# EAGLE library part STM32G071CXU (library stm32)
Mainstream Arm Cortex-M0+ MCU with 128 Kbytes of Flash memory, 36 Kbytes RAM, 64 MHz CPU, 4x USART, timers, ADC, DAC, comm. I/F, 1.7-3.6V
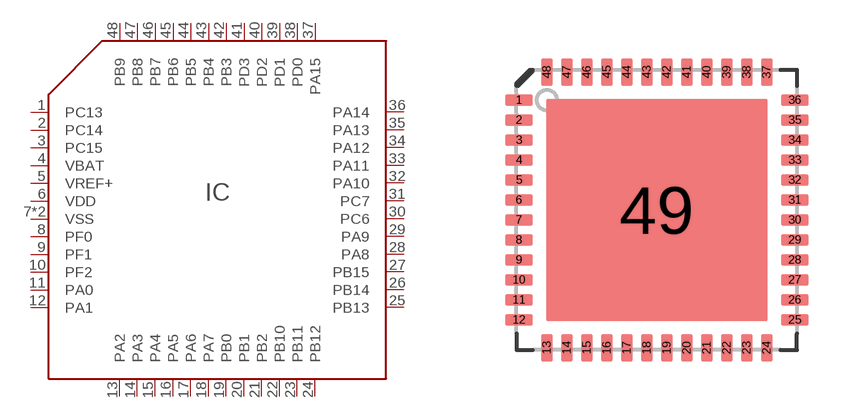
[diagram p29: symbol with the pads of UFQFPN48; footprint UFQFPN48]

Designator prefix IC

## STM32G071CXU (MANF: STMicroelectronics; MANF#: STM32G071CBU6)  [UFQFPN48]
1  PC13  hiz
2  PC14  hiz
3  PC15  hiz
4  VBAT  pas
5  VREF+  pas
6  VDD  pas
7  VSS  pas
8  PF0  hiz
9  PF1  hiz
10  PF2  hiz
11  PA0  hiz
12  PA1  hiz
13  PA2  hiz
14  PA3  hiz
15  PA4  hiz
16  PA5  hiz
17  PA6  hiz
18  PA7  hiz
19  PB0  hiz
20  PB1  hiz
21  PB2  hiz
22  PB10  hiz
23  PB11  hiz
24  PB12  hiz
25  PB13  hiz
26  PB14  hiz
27  PB15  hiz
28  PA8  hiz
29  PA9  hiz
30  PC6  hiz
31  PC7  hiz
32  PA10  hiz
33  PA11  hiz
34  PA12  hiz
35  PA13  hiz
36  PA14  hiz
37  PA15  hiz
38  PD0  hiz
39  PD1  hiz
40  PD2  hiz
41  PD3  hiz
42  PB3  hiz
43  PB4  hiz
44  PB5  hiz
45  PB6  hiz
46  PB7  hiz
47  PB8  hiz
48  PB9  hiz
49  VSS  pas

## Footprint UFQFPN48 (pad centres in mm)
smd 0.7 x 0.3: 1 -3.45,2.75; 2 -3.45,2.25; 3 -3.45,1.75; 4 -3.45,1.25; 5 -3.45,0.75; 6 -3.45,0.25; 7 -3.45,-0.25; 8 -3.45,-0.75; 9 -3.45,-1.25; 10 -3.45,-1.75; 11 -3.45,-2.25; 12 -3.45,-2.75; 25 3.45,-2.75; 26 3.45,-2.25; 27 3.45,-1.75; 28 3.45,-1.25; 29 3.45,-0.75; 30 3.45,-0.25; 31 3.45,0.25; 32 3.45,0.75; 33 3.45,1.25; 34 3.45,1.75; 35 3.45,2.25; 36 3.45,2.75
smd 0.3 x 0.7: 13 -2.75,-3.45; 14 -2.25,-3.45; 15 -1.75,-3.45; 16 -1.25,-3.45; 17 -0.75,-3.45; 18 -0.25,-3.45; 19 0.25,-3.45; 20 0.75,-3.45; 21 1.25,-3.45; 22 1.75,-3.45; 23 2.25,-3.45; 24 2.75,-3.45; 37 2.75,3.45; 38 2.25,3.45; 39 1.75,3.45; 40 1.25,3.45; 41 0.75,3.45; 42 0.25,3.45; 43 -0.25,3.45; 44 -0.75,3.45; 45 -1.25,3.45; 46 -1.75,3.45; 47 -2.25,3.45; 48 -2.75,3.45
smd 5.55 x 5.55: 49 0,0